# Altium integrated library Microchip PIC18.IntLib: 1897 symbols (part 45 of 110)
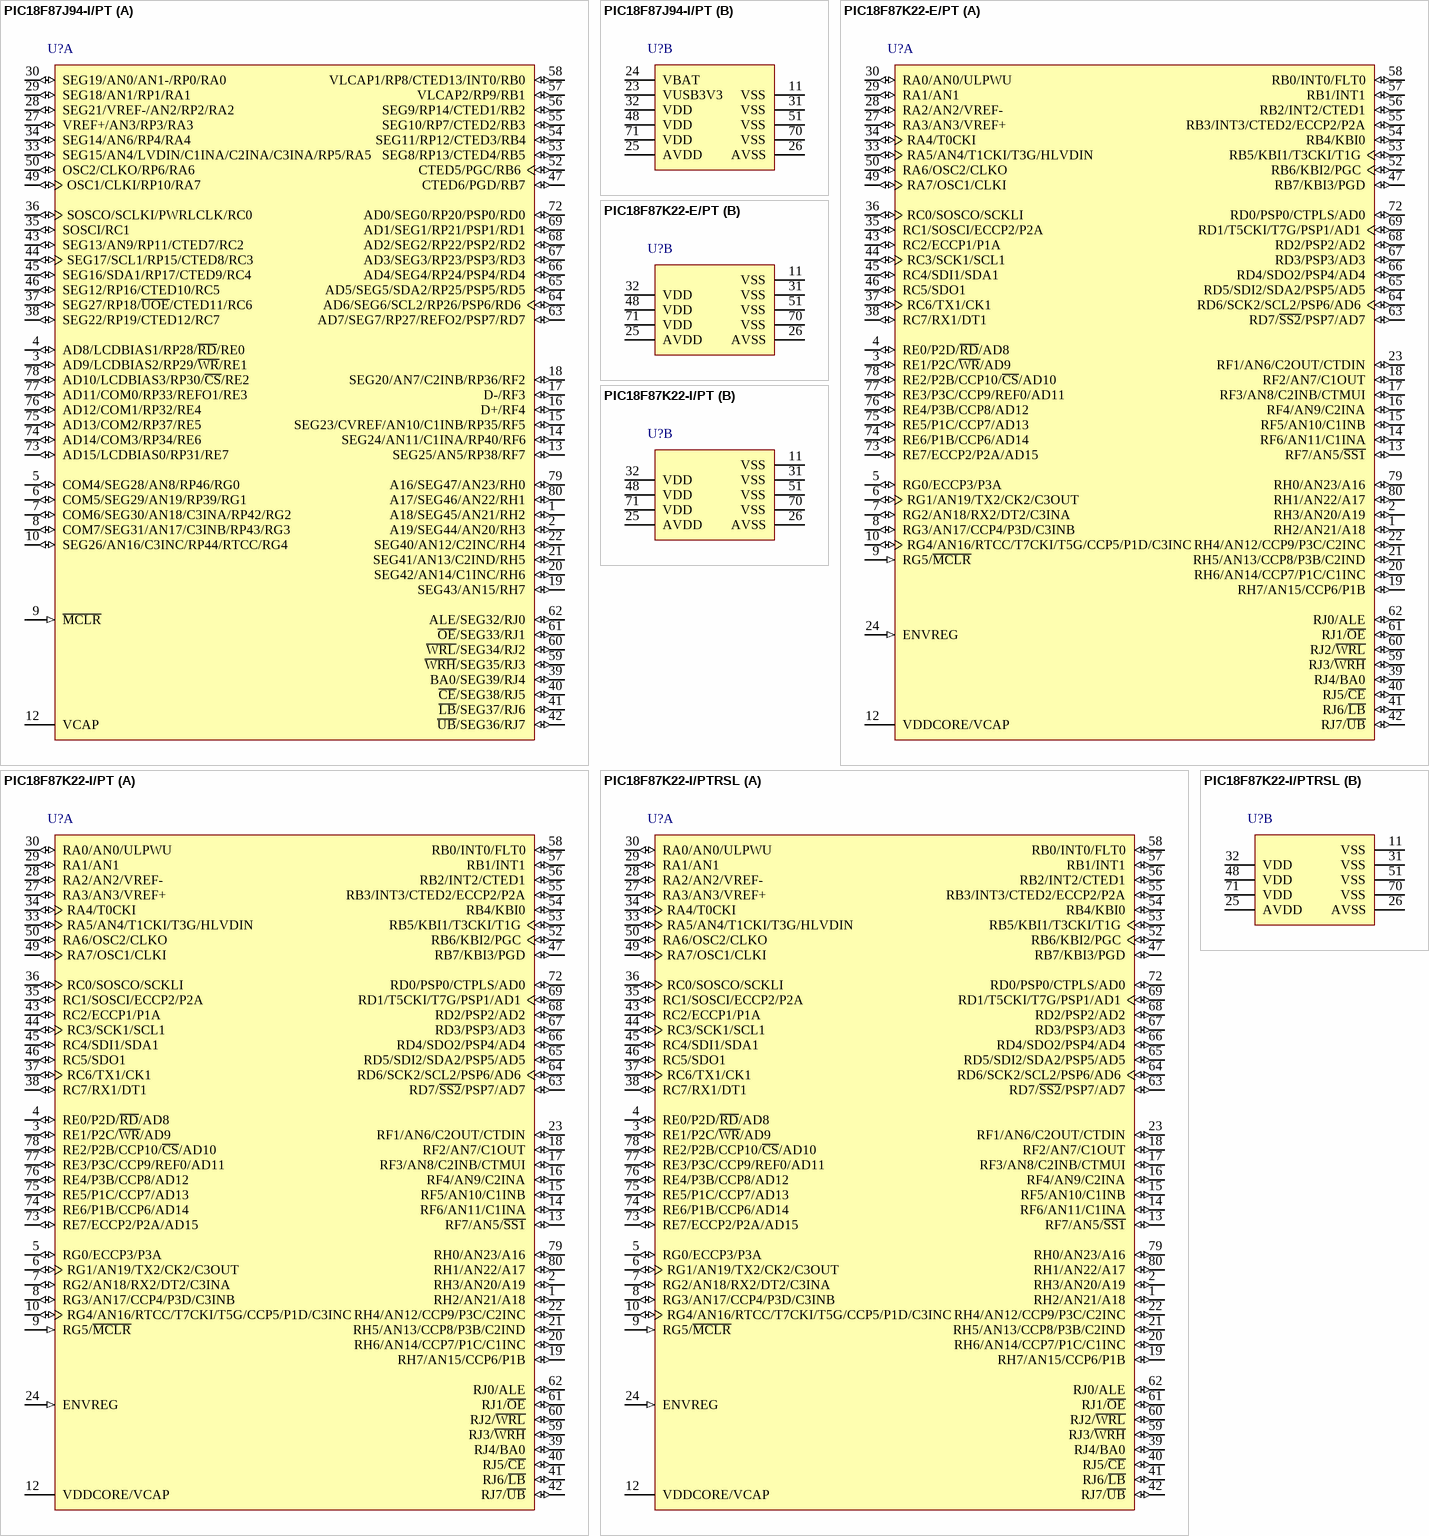
[diagram p245: symbols PIC18F87J94-I/PT to PIC18F87K22-I/PTRSL]

## PIC18F87K22-E/PT
designator U?
High-Performance, 1-Mbit Enhanced Flash MCU with 12-Bit A/D and nanoWatt XLP Technology, 64 MHz, 69 I/O, -40 to 125 degC, 80-pin TQFP (PT80), Tray; Manufacturer: Microchip; PartNumber: PIC18F87K22-E/PT; # of A/D Channels: 24; Digital Communication: 0 -UART, 2 -A/E/USART, 2 -MSSP(SPI/I2C), 0 -SSP(SPI/I2C); EEPROM Data Memory (bytes): 1024; I/O Pins: 69; Internal Oscillator: 16 MHz, 31 kHz; Max. CPU Speed MHz: 64; Operation Voltage Range: 1.8V - 5.5V; Program Memory KBytes: 128; RAM: 3862; Timers: 6 - 8-bit, 5 - 16-bit; DatasheetVersion: Rev. D; PackageVersion: C04-092B, 12/2012; PackageReference: TQFP-PT80; PackageDescription: 80-Lead Plastic Thin Quad FlatPack, 12 x 12 mm Body, 0.5 mm Pitch; Supplier 1: Digi-Key; Supplier Part Number 1: PIC18F87K22-E/PT-ND; Supplier 2: Newark; Supplier Part Number 2: 53R0286; Supplier 3: Mouser; Supplier Part Number 3: 579-PIC18F87K22-E/PT; Memory Type: Flash; Packing: TRAY; Program Memory KWords: 64; RoHS: TRUE; Mounting Technology: Surface Mount; ComponentLink1Description: Datasheet; ComponentLink1URL: http://ww1.microchip.com/downloads/en/DeviceDoc/39960d.pdf; ComponentLink2Description: Package Specification; ComponentLink2URL: http://www.microchip.com/stellent/groups/techpub_sg/documents/packagingspec/en012702.pdf; ComponentLink3Description: URL Link1; ComponentLink3URL: Product URL:http://www.microchip.com/datasheet/PIC18F87K22
footprint MCHP-TQFP-PT80_N (QFN, 80-Leads, Body 12x12mm, Pitch 0.5mm, IPC Medium Density)
footprint MCHP-TQFP-PT80_L (QFN, 80-Leads, Body 12x12mm, Pitch 0.5mm, IPC High Density)
footprint MCHP-TQFP-PT80_M (QFN, 80-Leads, Body 12x12mm, Pitch 0.5mm, IPC Low Density)
part A pins: 1 RH2/AN21/A18 (io), 2 RH3/AN20/A19 (io), 3 RE1/P2C/~{WR}/AD9 (io), 4 RE0/P2D/~{RD}/AD8 (io), 5 RG0/ECCP3/P3A (io), 6 RG1/AN19/TX2/CK2/C3OUT (io), 7 RG2/AN18/RX2/DT2/C3INA (io), 8 RG3/AN17/CCP4/P3D/C3INB (io), 9 RG5/~{MCLR} (in), 10 RG4/AN16/RTCC/T7CKI/T5G/CCP5/P1D/C3INC (io), 12 VDDCORE/VCAP (power), 13 RF7/AN5/~{SS1} (io), 14 RF6/AN11/C1INA (io), 15 RF5/AN10/C1INB (io), 16 RF4/AN9/C2INA (io), 17 RF3/AN8/C2INB/CTMUI (io), 18 RF2/AN7/C1OUT (io), 19 RH7/AN15/CCP6/P1B (io), 20 RH6/AN14/CCP7/P1C/C1INC (io), 21 RH5/AN13/CCP8/P3B/C2IND (io), 22 RH4/AN12/CCP9/P3C/C2INC (io), 23 RF1/AN6/C2OUT/CTDIN (io), 24 ENVREG (in) "Enable for on-chip voltage regulator.", 27 RA3/AN3/VREF+ (io), 28 RA2/AN2/VREF- (io), 29 RA1/AN1 (io), 30 RA0/AN0/ULPWU (io), 33 RA5/AN4/T1CKI/T3G/HLVDIN (io), 34 RA4/T0CKI (io), 35 RC1/SOSCI/ECCP2/P2A (io), 36 RC0/SOSCO/SCKLI (io), 37 RC6/TX1/CK1 (io), 38 RC7/RX1/DT1 (io), 39 RJ4/BA0 (io), 40 RJ5/~{CE} (io), 41 RJ6/~{LB} (io), 42 RJ7/~{UB} (io), 43 RC2/ECCP1/P1A (io), 44 RC3/SCK1/SCL1 (io), 45 RC4/SDI1/SDA1 (io), 46 RC5/SDO1 (io), 47 RB7/KBI3/PGD (io), 49 RA7/OSC1/CLKI (io), 50 RA6/OSC2/CLKO (io), 52 RB6/KBI2/PGC (io), 53 RB5/KBI1/T3CKI/T1G (io), 54 RB4/KBI0 (io), 55 RB3/INT3/CTED2/ECCP2/P2A (io), 56 RB2/INT2/CTED1 (io), 57 RB1/INT1 (io), 58 RB0/INT0/FLT0 (io), 59 RJ3/~{WRH} (io), 60 RJ2/~{WRL} (io), 61 RJ1/~{OE} (io), 62 RJ0/ALE (io), 63 RD7/~{SS2}/PSP7/AD7 (io), 64 RD6/SCK2/SCL2/PSP6/AD6 (io), 65 RD5/SDI2/SDA2/PSP5/AD5 (io), 66 RD4/SDO2/PSP4/AD4 (io), 67 RD3/PSP3/AD3 (io), 68 RD2/PSP2/AD2 (io), 69 RD1/T5CKI/T7G/PSP1/AD1 (io), 72 RD0/PSP0/CTPLS/AD0 (io), 73 RE7/ECCP2/P2A/AD15 (io), 74 RE6/P1B/CCP6/AD14 (io), 75 RE5/P1C/CCP7/AD13 (io), 76 RE4/P3B/CCP8/AD12 (io), 77 RE3/P3C/CCP9/REF0/AD11 (io), 78 RE2/P2B/CCP10/~{CS}/AD10 (io), 79 RH0/AN23/A16 (io), 80 RH1/AN22/A17 (io)
part B pins: 11 VSS (power) "Ground reference for logic and I/O pins.", 25 AVDD (power) "Positive supply for analog modules.", 26 AVSS (power) "Ground reference for analog modules.", 31 VSS (power) "Ground reference for logic and I/O pins.", 32 VDD (power) "Positive supply for logic and I/O pins.", 48 VDD (power) "Positive supply for logic and I/O pins.", 51 VSS (power) "Ground reference for logic and I/O pins.", 70 VSS (power) "Ground reference for logic and I/O pins.", 71 VDD (power) "Positive supply for logic and I/O pins."

## PIC18F87K22-I/PT
designator U?
High-Performance, 1-Mbit Enhanced Flash MCU with 12-Bit A/D and nanoWatt XLP Technology, 64 MHz, 69 I/O, -40 to 85 degC, 80-pin TQFP (PT80), Tray; Manufacturer: Microchip; PartNumber: PIC18F87K22-I/PT; # of A/D Channels: 24; Digital Communication: 0 -UART, 2 -A/E/USART, 2 -MSSP(SPI/I2C), 0 -SSP(SPI/I2C); EEPROM Data Memory (bytes): 1024; I/O Pins: 69; Internal Oscillator: 16 MHz, 31 kHz; Max. CPU Speed MHz: 64; Operation Voltage Range: 1.8V - 5.5V; Program Memory KBytes: 128; RAM: 3862; Timers: 6 - 8-bit, 5 - 16-bit; DatasheetVersion: Rev. D; PackageVersion: C04-092B, 12/2012; PackageReference: TQFP-PT80; PackageDescription: 80-Lead Plastic Thin Quad FlatPack, 12 x 12 mm Body, 0.5 mm Pitch; Supplier 1: Digi-Key; Supplier Part Number 1: PIC18F87K22-I/PT-ND; Supplier 2: Farnell; Supplier Part Number 2: 2103571; Supplier 3: Newark; Supplier Part Number 3: 07W6223; Supplier 4: Mouser; Supplier Part Number 4: 579-PIC18F87K22-I/PT; Memory Type: Flash; Packing: TRAY; Program Memory KWords: 64; RoHS: TRUE; Mounting Technology: Surface Mount; ComponentLink1Description: Datasheet; ComponentLink1URL: http://ww1.microchip.com/downloads/en/DeviceDoc/39960d.pdf; ComponentLink2Description: Package Specification; ComponentLink2URL: http://www.microchip.com/stellent/groups/techpub_sg/documents/packagingspec/en012702.pdf; ComponentLink3Description: URL Link1; ComponentLink3URL: Product URL:http://www.microchip.com/datasheet/PIC18F87K22
footprint MCHP-TQFP-PT80_N (QFN, 80-Leads, Body 12x12mm, Pitch 0.5mm, IPC Medium Density)
footprint MCHP-TQFP-PT80_L (QFN, 80-Leads, Body 12x12mm, Pitch 0.5mm, IPC High Density)
footprint MCHP-TQFP-PT80_M (QFN, 80-Leads, Body 12x12mm, Pitch 0.5mm, IPC Low Density)
part A pins: 1 RH2/AN21/A18 (io), 2 RH3/AN20/A19 (io), 3 RE1/P2C/~{WR}/AD9 (io), 4 RE0/P2D/~{RD}/AD8 (io), 5 RG0/ECCP3/P3A (io), 6 RG1/AN19/TX2/CK2/C3OUT (io), 7 RG2/AN18/RX2/DT2/C3INA (io), 8 RG3/AN17/CCP4/P3D/C3INB (io), 9 RG5/~{MCLR} (in), 10 RG4/AN16/RTCC/T7CKI/T5G/CCP5/P1D/C3INC (io), 12 VDDCORE/VCAP (power), 13 RF7/AN5/~{SS1} (io), 14 RF6/AN11/C1INA (io), 15 RF5/AN10/C1INB (io), 16 RF4/AN9/C2INA (io), 17 RF3/AN8/C2INB/CTMUI (io), 18 RF2/AN7/C1OUT (io), 19 RH7/AN15/CCP6/P1B (io), 20 RH6/AN14/CCP7/P1C/C1INC (io), 21 RH5/AN13/CCP8/P3B/C2IND (io), 22 RH4/AN12/CCP9/P3C/C2INC (io), 23 RF1/AN6/C2OUT/CTDIN (io), 24 ENVREG (in) "Enable for on-chip voltage regulator.", 27 RA3/AN3/VREF+ (io), 28 RA2/AN2/VREF- (io), 29 RA1/AN1 (io), 30 RA0/AN0/ULPWU (io), 33 RA5/AN4/T1CKI/T3G/HLVDIN (io), 34 RA4/T0CKI (io), 35 RC1/SOSCI/ECCP2/P2A (io), 36 RC0/SOSCO/SCKLI (io), 37 RC6/TX1/CK1 (io), 38 RC7/RX1/DT1 (io), 39 RJ4/BA0 (io), 40 RJ5/~{CE} (io), 41 RJ6/~{LB} (io), 42 RJ7/~{UB} (io), 43 RC2/ECCP1/P1A (io), 44 RC3/SCK1/SCL1 (io), 45 RC4/SDI1/SDA1 (io), 46 RC5/SDO1 (io), 47 RB7/KBI3/PGD (io), 49 RA7/OSC1/CLKI (io), 50 RA6/OSC2/CLKO (io), 52 RB6/KBI2/PGC (io), 53 RB5/KBI1/T3CKI/T1G (io), 54 RB4/KBI0 (io), 55 RB3/INT3/CTED2/ECCP2/P2A (io), 56 RB2/INT2/CTED1 (io), 57 RB1/INT1 (io), 58 RB0/INT0/FLT0 (io), 59 RJ3/~{WRH} (io), 60 RJ2/~{WRL} (io), 61 RJ1/~{OE} (io), 62 RJ0/ALE (io), 63 RD7/~{SS2}/PSP7/AD7 (io), 64 RD6/SCK2/SCL2/PSP6/AD6 (io), 65 RD5/SDI2/SDA2/PSP5/AD5 (io), 66 RD4/SDO2/PSP4/AD4 (io), 67 RD3/PSP3/AD3 (io), 68 RD2/PSP2/AD2 (io), 69 RD1/T5CKI/T7G/PSP1/AD1 (io), 72 RD0/PSP0/CTPLS/AD0 (io), 73 RE7/ECCP2/P2A/AD15 (io), 74 RE6/P1B/CCP6/AD14 (io), 75 RE5/P1C/CCP7/AD13 (io), 76 RE4/P3B/CCP8/AD12 (io), 77 RE3/P3C/CCP9/REF0/AD11 (io), 78 RE2/P2B/CCP10/~{CS}/AD10 (io), 79 RH0/AN23/A16 (io), 80 RH1/AN22/A17 (io)
part B pins: 11 VSS (power) "Ground reference for logic and I/O pins.", 25 AVDD (power) "Positive supply for analog modules.", 26 AVSS (power) "Ground reference for analog modules.", 31 VSS (power) "Ground reference for logic and I/O pins.", 32 VDD (power) "Positive supply for logic and I/O pins.", 48 VDD (power) "Positive supply for logic and I/O pins.", 51 VSS (power) "Ground reference for logic and I/O pins.", 70 VSS (power) "Ground reference for logic and I/O pins.", 71 VDD (power) "Positive supply for logic and I/O pins."

## PIC18F87K22-I/PTRSL
designator U?
High-Performance, 1-Mbit Enhanced Flash MCU with 12-Bit A/D and nanoWatt XLP Technology, 64 MHz, 69 I/O, -40 to 85 degC, 80-pin TQFP (PT80), Tray; Manufacturer: Microchip; PartNumber: PIC18F87K22-I/PTRSL; # of A/D Channels: 24; Digital Communication: 0 -UART, 2 -A/E/USART, 2 -MSSP(SPI/I2C), 0 -SSP(SPI/I2C); EEPROM Data Memory (bytes): 1024; I/O Pins: 69; Internal Oscillator: 16 MHz, 31 kHz; Max. CPU Speed MHz: 64; Operation Voltage Range: 1.8V - 5.5V; Program Memory KBytes: 128; RAM: 3862; Timers: 6 - 8-bit, 5 - 16-bit; DatasheetVersion: Rev. D; PackageVersion: C04-092B, 12/2012; PackageReference: TQFP-PT80; PackageDescription: 80-Lead Plastic Thin Quad FlatPack, 12 x 12 mm Body, 0.5 mm Pitch; Supplier 1: Digi-Key; Supplier Part Number 1: PIC18F87K22-I/PTRSL-ND; Supplier 2: Farnell; Supplier Part Number 2: 1826227; Supplier 3: Farnell; Supplier Part Number 3: 1826227MPKG; Supplier 4: Newark; Supplier Part Number 4: 25R8362; Supplier 5: Mouser; Supplier Part Number 5: 579-PIC18F87K22IPTRS; Memory Type: Flash; Packing: TRAY; Program Memory KWords: 64; RoHS: TRUE; Mounting Technology: Surface Mount; ComponentLink1Description: Datasheet; ComponentLink1URL: http://ww1.microchip.com/downloads/en/DeviceDoc/39960d.pdf; ComponentLink2Description: Package Specification; ComponentLink2URL: http://www.microchip.com/stellent/groups/techpub_sg/documents/packagingspec/en012702.pdf; ComponentLink3Description: URL Link1; ComponentLink3URL: Product URL:http://www.microchip.com/datasheet/PIC18F87K22
footprint MCHP-TQFP-PT80_N (QFN, 80-Leads, Body 12x12mm, Pitch 0.5mm, IPC Medium Density)
footprint MCHP-TQFP-PT80_L (QFN, 80-Leads, Body 12x12mm, Pitch 0.5mm, IPC High Density)
footprint MCHP-TQFP-PT80_M (QFN, 80-Leads, Body 12x12mm, Pitch 0.5mm, IPC Low Density)
part A pins: 1 RH2/AN21/A18 (io), 2 RH3/AN20/A19 (io), 3 RE1/P2C/~{WR}/AD9 (io), 4 RE0/P2D/~{RD}/AD8 (io), 5 RG0/ECCP3/P3A (io), 6 RG1/AN19/TX2/CK2/C3OUT (io), 7 RG2/AN18/RX2/DT2/C3INA (io), 8 RG3/AN17/CCP4/P3D/C3INB (io), 9 RG5/~{MCLR} (in), 10 RG4/AN16/RTCC/T7CKI/T5G/CCP5/P1D/C3INC (io), 12 VDDCORE/VCAP (power), 13 RF7/AN5/~{SS1} (io), 14 RF6/AN11/C1INA (io), 15 RF5/AN10/C1INB (io), 16 RF4/AN9/C2INA (io), 17 RF3/AN8/C2INB/CTMUI (io), 18 RF2/AN7/C1OUT (io), 19 RH7/AN15/CCP6/P1B (io), 20 RH6/AN14/CCP7/P1C/C1INC (io), 21 RH5/AN13/CCP8/P3B/C2IND (io), 22 RH4/AN12/CCP9/P3C/C2INC (io), 23 RF1/AN6/C2OUT/CTDIN (io), 24 ENVREG (in) "Enable for on-chip voltage regulator.", 27 RA3/AN3/VREF+ (io), 28 RA2/AN2/VREF- (io), 29 RA1/AN1 (io), 30 RA0/AN0/ULPWU (io), 33 RA5/AN4/T1CKI/T3G/HLVDIN (io), 34 RA4/T0CKI (io), 35 RC1/SOSCI/ECCP2/P2A (io), 36 RC0/SOSCO/SCKLI (io), 37 RC6/TX1/CK1 (io), 38 RC7/RX1/DT1 (io), 39 RJ4/BA0 (io), 40 RJ5/~{CE} (io), 41 RJ6/~{LB} (io), 42 RJ7/~{UB} (io), 43 RC2/ECCP1/P1A (io), 44 RC3/SCK1/SCL1 (io), 45 RC4/SDI1/SDA1 (io), 46 RC5/SDO1 (io), 47 RB7/KBI3/PGD (io), 49 RA7/OSC1/CLKI (io), 50 RA6/OSC2/CLKO (io), 52 RB6/KBI2/PGC (io), 53 RB5/KBI1/T3CKI/T1G (io), 54 RB4/KBI0 (io), 55 RB3/INT3/CTED2/ECCP2/P2A (io), 56 RB2/INT2/CTED1 (io), 57 RB1/INT1 (io), 58 RB0/INT0/FLT0 (io), 59 RJ3/~{WRH} (io), 60 RJ2/~{WRL} (io), 61 RJ1/~{OE} (io), 62 RJ0/ALE (io), 63 RD7/~{SS2}/PSP7/AD7 (io), 64 RD6/SCK2/SCL2/PSP6/AD6 (io), 65 RD5/SDI2/SDA2/PSP5/AD5 (io), 66 RD4/SDO2/PSP4/AD4 (io), 67 RD3/PSP3/AD3 (io), 68 RD2/PSP2/AD2 (io), 69 RD1/T5CKI/T7G/PSP1/AD1 (io), 72 RD0/PSP0/CTPLS/AD0 (io), 73 RE7/ECCP2/P2A/AD15 (io), 74 RE6/P1B/CCP6/AD14 (io), 75 RE5/P1C/CCP7/AD13 (io), 76 RE4/P3B/CCP8/AD12 (io), 77 RE3/P3C/CCP9/REF0/AD11 (io), 78 RE2/P2B/CCP10/~{CS}/AD10 (io), 79 RH0/AN23/A16 (io), 80 RH1/AN22/A17 (io)
part B pins: 11 VSS (power) "Ground reference for logic and I/O pins.", 25 AVDD (power) "Positive supply for analog modules.", 26 AVSS (power) "Ground reference for analog modules.", 31 VSS (power) "Ground reference for logic and I/O pins.", 32 VDD (power) "Positive supply for logic and I/O pins.", 48 VDD (power) "Positive supply for logic and I/O pins.", 51 VSS (power) "Ground reference for logic and I/O pins.", 70 VSS (power) "Ground reference for logic and I/O pins.", 71 VDD (power) "Positive supply for logic and I/O pins."

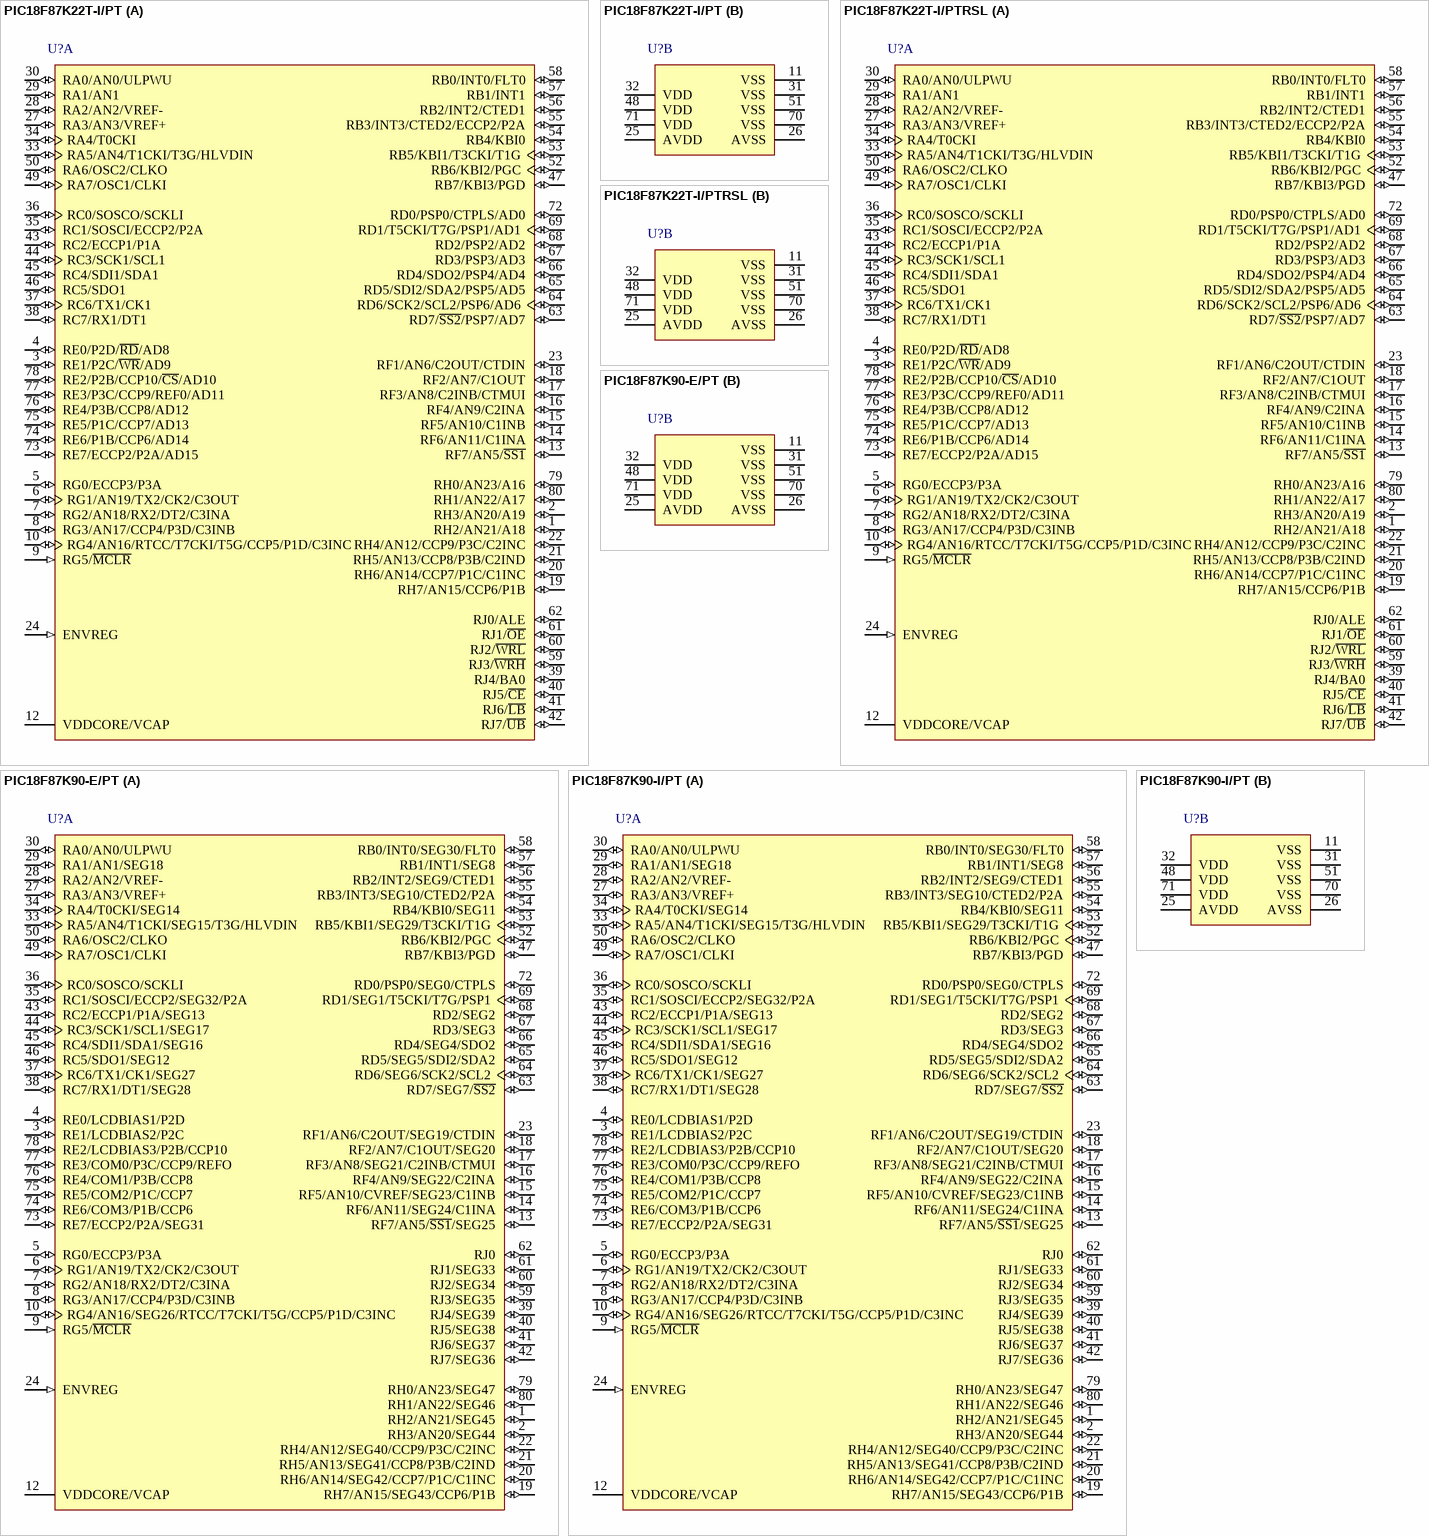
[diagram p82: symbols PIC18F87K22T-I/PT to PIC18F87K90-I/PT]

## PIC18F87K22T-I/PT
designator U?
High-Performance, 1-Mbit Enhanced Flash MCU with 12-Bit A/D and nanoWatt XLP Technology, 64 MHz, 69 I/O, -40 to 85 degC, 80-pin TQFP (PT80), Tape and Reel; Manufacturer: Microchip; PartNumber: PIC18F87K22T-I/PT; # of A/D Channels: 24; Digital Communication: 0 -UART, 2 -A/E/USART, 2 -MSSP(SPI/I2C), 0 -SSP(SPI/I2C); EEPROM Data Memory (bytes): 1024; I/O Pins: 69; Internal Oscillator: 16 MHz, 31 kHz; Max. CPU Speed MHz: 64; Operation Voltage Range: 1.8V - 5.5V; Packing: T/R; Program Memory KBytes: 128; RAM: 3862; Timers: 6 - 8-bit, 5 - 16-bit; DatasheetVersion: Rev. D; PackageVersion: C04-092B, 12/2012; PackageReference: TQFP-PT80; PackageDescription: 80-Lead Plastic Thin Quad FlatPack, 12 x 12 mm Body, 0.5 mm Pitch; Supplier 1: Digi-Key; Supplier Part Number 1: PIC18F87K22T-I/PT-ND; Supplier 2: Newark; Supplier Part Number 2: 25R8363; Supplier 3: Mouser; Supplier Part Number 3: 579-PIC18F87K22TI/PT; Memory Type: Flash; Program Memory KWords: 64; RoHS: TRUE; Mounting Technology: Surface Mount; ComponentLink1Description: Datasheet; ComponentLink1URL: http://ww1.microchip.com/downloads/en/DeviceDoc/39960d.pdf; ComponentLink2Description: Package Specification; ComponentLink2URL: http://www.microchip.com/stellent/groups/techpub_sg/documents/packagingspec/en012702.pdf; ComponentLink3Description: URL Link1; ComponentLink3URL: Product URL:http://www.microchip.com/datasheet/PIC18F87K22
footprint MCHP-TQFP-PT80_N (QFN, 80-Leads, Body 12x12mm, Pitch 0.5mm, IPC Medium Density)
footprint MCHP-TQFP-PT80_L (QFN, 80-Leads, Body 12x12mm, Pitch 0.5mm, IPC High Density)
footprint MCHP-TQFP-PT80_M (QFN, 80-Leads, Body 12x12mm, Pitch 0.5mm, IPC Low Density)
part A pins: 1 RH2/AN21/A18 (io), 2 RH3/AN20/A19 (io), 3 RE1/P2C/~{WR}/AD9 (io), 4 RE0/P2D/~{RD}/AD8 (io), 5 RG0/ECCP3/P3A (io), 6 RG1/AN19/TX2/CK2/C3OUT (io), 7 RG2/AN18/RX2/DT2/C3INA (io), 8 RG3/AN17/CCP4/P3D/C3INB (io), 9 RG5/~{MCLR} (in), 10 RG4/AN16/RTCC/T7CKI/T5G/CCP5/P1D/C3INC (io), 12 VDDCORE/VCAP (power), 13 RF7/AN5/~{SS1} (io), 14 RF6/AN11/C1INA (io), 15 RF5/AN10/C1INB (io), 16 RF4/AN9/C2INA (io), 17 RF3/AN8/C2INB/CTMUI (io), 18 RF2/AN7/C1OUT (io), 19 RH7/AN15/CCP6/P1B (io), 20 RH6/AN14/CCP7/P1C/C1INC (io), 21 RH5/AN13/CCP8/P3B/C2IND (io), 22 RH4/AN12/CCP9/P3C/C2INC (io), 23 RF1/AN6/C2OUT/CTDIN (io), 24 ENVREG (in) "Enable for on-chip voltage regulator.", 27 RA3/AN3/VREF+ (io), 28 RA2/AN2/VREF- (io), 29 RA1/AN1 (io), 30 RA0/AN0/ULPWU (io), 33 RA5/AN4/T1CKI/T3G/HLVDIN (io), 34 RA4/T0CKI (io), 35 RC1/SOSCI/ECCP2/P2A (io), 36 RC0/SOSCO/SCKLI (io), 37 RC6/TX1/CK1 (io), 38 RC7/RX1/DT1 (io), 39 RJ4/BA0 (io), 40 RJ5/~{CE} (io), 41 RJ6/~{LB} (io), 42 RJ7/~{UB} (io), 43 RC2/ECCP1/P1A (io), 44 RC3/SCK1/SCL1 (io), 45 RC4/SDI1/SDA1 (io), 46 RC5/SDO1 (io), 47 RB7/KBI3/PGD (io), 49 RA7/OSC1/CLKI (io), 50 RA6/OSC2/CLKO (io), 52 RB6/KBI2/PGC (io), 53 RB5/KBI1/T3CKI/T1G (io), 54 RB4/KBI0 (io), 55 RB3/INT3/CTED2/ECCP2/P2A (io), 56 RB2/INT2/CTED1 (io), 57 RB1/INT1 (io), 58 RB0/INT0/FLT0 (io), 59 RJ3/~{WRH} (io), 60 RJ2/~{WRL} (io), 61 RJ1/~{OE} (io), 62 RJ0/ALE (io), 63 RD7/~{SS2}/PSP7/AD7 (io), 64 RD6/SCK2/SCL2/PSP6/AD6 (io), 65 RD5/SDI2/SDA2/PSP5/AD5 (io), 66 RD4/SDO2/PSP4/AD4 (io), 67 RD3/PSP3/AD3 (io), 68 RD2/PSP2/AD2 (io), 69 RD1/T5CKI/T7G/PSP1/AD1 (io), 72 RD0/PSP0/CTPLS/AD0 (io), 73 RE7/ECCP2/P2A/AD15 (io), 74 RE6/P1B/CCP6/AD14 (io), 75 RE5/P1C/CCP7/AD13 (io), 76 RE4/P3B/CCP8/AD12 (io), 77 RE3/P3C/CCP9/REF0/AD11 (io), 78 RE2/P2B/CCP10/~{CS}/AD10 (io), 79 RH0/AN23/A16 (io), 80 RH1/AN22/A17 (io)
part B pins: 11 VSS (power) "Ground reference for logic and I/O pins.", 25 AVDD (power) "Positive supply for analog modules.", 26 AVSS (power) "Ground reference for analog modules.", 31 VSS (power) "Ground reference for logic and I/O pins.", 32 VDD (power) "Positive supply for logic and I/O pins.", 48 VDD (power) "Positive supply for logic and I/O pins.", 51 VSS (power) "Ground reference for logic and I/O pins.", 70 VSS (power) "Ground reference for logic and I/O pins.", 71 VDD (power) "Positive supply for logic and I/O pins."

## PIC18F87K22T-I/PTRSL
designator U?
High-Performance, 1-Mbit Enhanced Flash MCU with 12-Bit A/D and nanoWatt XLP Technology, 64 MHz, 69 I/O, -40 to 85 degC, 80-pin TQFP (PT80), Tape and Reel; Manufacturer: Microchip; PartNumber: PIC18F87K22T-I/PTRSL; # of A/D Channels: 24; Digital Communication: 0 -UART, 2 -A/E/USART, 2 -MSSP(SPI/I2C), 0 -SSP(SPI/I2C); EEPROM Data Memory (bytes): 1024; I/O Pins: 69; Internal Oscillator: 16 MHz, 31 kHz; Max. CPU Speed MHz: 64; Operation Voltage Range: 1.8V - 5.5V; Packing: T/R; Program Memory KBytes: 128; RAM: 3862; Timers: 6 - 8-bit, 5 - 16-bit; DatasheetVersion: Rev. D; PackageVersion: C04-092B, 12/2012; PackageReference: TQFP-PT80; PackageDescription: 80-Lead Plastic Thin Quad FlatPack, 12 x 12 mm Body, 0.5 mm Pitch; Supplier 1: Digi-Key; Supplier Part Number 1: PIC18F87K22T-I/PTRSL-ND; Supplier 2: Mouser; Supplier Part Number 2: 579-PIC18F87K22TIPTR; Memory Type: Flash; Program Memory KWords: 64; RoHS: TRUE; Mounting Technology: Surface Mount; ComponentLink1Description: Datasheet; ComponentLink1URL: http://ww1.microchip.com/downloads/en/DeviceDoc/39960d.pdf; ComponentLink2Description: Package Specification; ComponentLink2URL: http://www.microchip.com/stellent/groups/techpub_sg/documents/packagingspec/en012702.pdf; ComponentLink3Description: URL Link1; ComponentLink3URL: Product URL:http://www.microchip.com/datasheet/PIC18F87K22
footprint MCHP-TQFP-PT80_N (QFN, 80-Leads, Body 12x12mm, Pitch 0.5mm, IPC Medium Density)
footprint MCHP-TQFP-PT80_L (QFN, 80-Leads, Body 12x12mm, Pitch 0.5mm, IPC High Density)
footprint MCHP-TQFP-PT80_M (QFN, 80-Leads, Body 12x12mm, Pitch 0.5mm, IPC Low Density)
part A pins: 1 RH2/AN21/A18 (io), 2 RH3/AN20/A19 (io), 3 RE1/P2C/~{WR}/AD9 (io), 4 RE0/P2D/~{RD}/AD8 (io), 5 RG0/ECCP3/P3A (io), 6 RG1/AN19/TX2/CK2/C3OUT (io), 7 RG2/AN18/RX2/DT2/C3INA (io), 8 RG3/AN17/CCP4/P3D/C3INB (io), 9 RG5/~{MCLR} (in), 10 RG4/AN16/RTCC/T7CKI/T5G/CCP5/P1D/C3INC (io), 12 VDDCORE/VCAP (power), 13 RF7/AN5/~{SS1} (io), 14 RF6/AN11/C1INA (io), 15 RF5/AN10/C1INB (io), 16 RF4/AN9/C2INA (io), 17 RF3/AN8/C2INB/CTMUI (io), 18 RF2/AN7/C1OUT (io), 19 RH7/AN15/CCP6/P1B (io), 20 RH6/AN14/CCP7/P1C/C1INC (io), 21 RH5/AN13/CCP8/P3B/C2IND (io), 22 RH4/AN12/CCP9/P3C/C2INC (io), 23 RF1/AN6/C2OUT/CTDIN (io), 24 ENVREG (in) "Enable for on-chip voltage regulator.", 27 RA3/AN3/VREF+ (io), 28 RA2/AN2/VREF- (io), 29 RA1/AN1 (io), 30 RA0/AN0/ULPWU (io), 33 RA5/AN4/T1CKI/T3G/HLVDIN (io), 34 RA4/T0CKI (io), 35 RC1/SOSCI/ECCP2/P2A (io), 36 RC0/SOSCO/SCKLI (io), 37 RC6/TX1/CK1 (io), 38 RC7/RX1/DT1 (io), 39 RJ4/BA0 (io), 40 RJ5/~{CE} (io), 41 RJ6/~{LB} (io), 42 RJ7/~{UB} (io), 43 RC2/ECCP1/P1A (io), 44 RC3/SCK1/SCL1 (io), 45 RC4/SDI1/SDA1 (io), 46 RC5/SDO1 (io), 47 RB7/KBI3/PGD (io), 49 RA7/OSC1/CLKI (io), 50 RA6/OSC2/CLKO (io), 52 RB6/KBI2/PGC (io), 53 RB5/KBI1/T3CKI/T1G (io), 54 RB4/KBI0 (io), 55 RB3/INT3/CTED2/ECCP2/P2A (io), 56 RB2/INT2/CTED1 (io), 57 RB1/INT1 (io), 58 RB0/INT0/FLT0 (io), 59 RJ3/~{WRH} (io), 60 RJ2/~{WRL} (io), 61 RJ1/~{OE} (io), 62 RJ0/ALE (io), 63 RD7/~{SS2}/PSP7/AD7 (io), 64 RD6/SCK2/SCL2/PSP6/AD6 (io), 65 RD5/SDI2/SDA2/PSP5/AD5 (io), 66 RD4/SDO2/PSP4/AD4 (io), 67 RD3/PSP3/AD3 (io), 68 RD2/PSP2/AD2 (io), 69 RD1/T5CKI/T7G/PSP1/AD1 (io), 72 RD0/PSP0/CTPLS/AD0 (io), 73 RE7/ECCP2/P2A/AD15 (io), 74 RE6/P1B/CCP6/AD14 (io), 75 RE5/P1C/CCP7/AD13 (io), 76 RE4/P3B/CCP8/AD12 (io), 77 RE3/P3C/CCP9/REF0/AD11 (io), 78 RE2/P2B/CCP10/~{CS}/AD10 (io), 79 RH0/AN23/A16 (io), 80 RH1/AN22/A17 (io)
part B pins: 11 VSS (power) "Ground reference for logic and I/O pins.", 25 AVDD (power) "Positive supply for analog modules.", 26 AVSS (power) "Ground reference for analog modules.", 31 VSS (power) "Ground reference for logic and I/O pins.", 32 VDD (power) "Positive supply for logic and I/O pins.", 48 VDD (power) "Positive supply for logic and I/O pins.", 51 VSS (power) "Ground reference for logic and I/O pins.", 70 VSS (power) "Ground reference for logic and I/O pins.", 71 VDD (power) "Positive supply for logic and I/O pins."

## PIC18F87K90-E/PT
designator U?
High-Performance Microcontroller with LCD Driver and nanoWatt XLP Technology, 64 MHz, 69 I/O, -40 to 125 degC, 80-pin TQFP (PT80), Tray; Manufacturer: Microchip; PartNumber: PIC18F87K90-E/PT; # of A/D Channels: 24; Digital Communication: 2 -A/E/USART, 2 -MSSP(SPI/I2C); EEPROM Data Memory (bytes): 1024; I/O Pins: 69; Internal Oscillator: 16 MHz, 31 kHz; Max. CPU Speed MHz: 64; Memory Type: Flash; Operation Voltage Range: 1.8V - 5.5V; Program Memory KBytes: 128; RAM: 4096; Timers: 6 - 8-bit, 5 - 16-bit; DatasheetVersion: Rev. D; PackageVersion: C04-092B, 12/2012; PackageReference: TQFP-PT80; PackageDescription: 80-Lead Plastic Thin Quad FlatPack, 12 x 12 mm Body, 0.5 mm Pitch; Supplier 1: Digi-Key; Supplier Part Number 1: PIC18F87K90-E/PT-ND; Supplier 2: Mouser; Supplier Part Number 2: 579-PIC18F87K90-E/PT; Packing: TRAY; Program Memory KWords: 64; RoHS: TRUE; Mounting Technology: Surface Mount; ComponentLink1Description: Datasheet; ComponentLink1URL: http://ww1.microchip.com/downloads/en/DeviceDoc/39957d.pdf; ComponentLink2Description: Package Specification; ComponentLink2URL: http://www.microchip.com/stellent/groups/techpub_sg/documents/packagingspec/en012702.pdf; ComponentLink3Description: URL Link1; ComponentLink3URL: Product URL:http://www.microchip.com/datasheet/PIC18F87K90
footprint MCHP-TQFP-PT80_N (QFN, 80-Leads, Body 12x12mm, Pitch 0.5mm, IPC Medium Density)
footprint MCHP-TQFP-PT80_L (QFN, 80-Leads, Body 12x12mm, Pitch 0.5mm, IPC High Density)
footprint MCHP-TQFP-PT80_M (QFN, 80-Leads, Body 12x12mm, Pitch 0.5mm, IPC Low Density)
part A pins: 1 RH2/AN21/SEG45 (io), 2 RH3/AN20/SEG44 (io), 3 RE1/LCDBIAS2/P2C (io), 4 RE0/LCDBIAS1/P2D (io), 5 RG0/ECCP3/P3A (io), 6 RG1/AN19/TX2/CK2/C3OUT (io), 7 RG2/AN18/RX2/DT2/C3INA (io), 8 RG3/AN17/CCP4/P3D/C3INB (io), 9 RG5/~{MCLR} (in), 10 RG4/AN16/SEG26/RTCC/T7CKI/T5G/CCP5/P1D/C3INC (io), 12 VDDCORE/VCAP (power), 13 RF7/AN5/~{SS1}/SEG25 (io), 14 RF6/AN11/SEG24/C1INA (io), 15 RF5/AN10/CVREF/SEG23/C1INB (io), 16 RF4/AN9/SEG22/C2INA (io), 17 RF3/AN8/SEG21/C2INB/CTMUI (io), 18 RF2/AN7/C1OUT/SEG20 (io), 19 RH7/AN15/SEG43/CCP6/P1B (io), 20 RH6/AN14/SEG42/CCP7/P1C/C1INC (io), 21 RH5/AN13/SEG41/CCP8/P3B/C2IND (io), 22 RH4/AN12/SEG40/CCP9/P3C/C2INC (io), 23 RF1/AN6/C2OUT/SEG19/CTDIN (io), 24 ENVREG (in) "Enable for on-chip voltage regulator.", 27 RA3/AN3/VREF+ (io), 28 RA2/AN2/VREF- (io), 29 RA1/AN1/SEG18 (io), 30 RA0/AN0/ULPWU (io), 33 RA5/AN4/T1CKI/SEG15/T3G/HLVDIN (io), 34 RA4/T0CKI/SEG14 (io), 35 RC1/SOSCI/ECCP2/SEG32/P2A (io), 36 RC0/SOSCO/SCKLI (io), 37 RC6/TX1/CK1/SEG27 (io), 38 RC7/RX1/DT1/SEG28 (io), 39 RJ4/SEG39 (io), 40 RJ5/SEG38 (io), 41 RJ6/SEG37 (io), 42 RJ7/SEG36 (io), 43 RC2/ECCP1/P1A/SEG13 (io), 44 RC3/SCK1/SCL1/SEG17 (io), 45 RC4/SDI1/SDA1/SEG16 (io), 46 RC5/SDO1/SEG12 (io), 47 RB7/KBI3/PGD (io), 49 RA7/OSC1/CLKI (io), 50 RA6/OSC2/CLKO (io), 52 RB6/KBI2/PGC (io), 53 RB5/KBI1/SEG29/T3CKI/T1G (io), 54 RB4/KBI0/SEG11 (io), 55 RB3/INT3/SEG10/CTED2/P2A (io), 56 RB2/INT2/SEG9/CTED1 (io), 57 RB1/INT1/SEG8 (io), 58 RB0/INT0/SEG30/FLT0 (io), 59 RJ3/SEG35 (io), 60 RJ2/SEG34 (io), 61 RJ1/SEG33 (io), 62 RJ0 (io) "PORTJ is a bidirectional I/O port.Digital I/O.", 63 RD7/SEG7/~{SS2} (io), 64 RD6/SEG6/SCK2/SCL2 (io), 65 RD5/SEG5/SDI2/SDA2 (io), 66 RD4/SEG4/SDO2 (io), 67 RD3/SEG3 (io), 68 RD2/SEG2 (io), 69 RD1/SEG1/T5CKI/T7G/PSP1 (io), 72 RD0/PSP0/SEG0/CTPLS (io), 73 RE7/ECCP2/P2A/SEG31 (io), 74 RE6/COM3/P1B/CCP6 (io), 75 RE5/COM2/P1C/CCP7 (io), 76 RE4/COM1/P3B/CCP8 (io), 77 RE3/COM0/P3C/CCP9/REFO (io), 78 RE2/LCDBIAS3/P2B/CCP10 (io), 79 RH0/AN23/SEG47 (io), 80 RH1/AN22/SEG46 (io)
part B pins: 11 VSS (power) "Ground reference for logic and I/O pins.", 25 AVDD (power) "Positive supply for analog modules.", 26 AVSS (power) "Ground reference for analog modules.", 31 VSS (power) "Ground reference for logic and I/O pins.", 32 VDD (power) "Positive supply for logic and I/O pins.", 48 VDD (power) "Positive supply for logic and I/O pins.", 51 VSS (power) "Ground reference for logic and I/O pins.", 70 VSS (power) "Ground reference for logic and I/O pins.", 71 VDD (power) "Positive supply for logic and I/O pins."

## PIC18F87K90-I/PT
designator U?
High-Performance Microcontroller with LCD Driver and nanoWatt XLP Technology, 64 MHz, 69 I/O, -40 to 85 degC, 80-pin TQFP (PT80), Tray; Manufacturer: Microchip; PartNumber: PIC18F87K90-I/PT; # of A/D Channels: 24; Digital Communication: 2 -A/E/USART, 2 -MSSP(SPI/I2C); EEPROM Data Memory (bytes): 1024; I/O Pins: 69; Internal Oscillator: 16 MHz, 31 kHz; Max. CPU Speed MHz: 64; Memory Type: Flash; Operation Voltage Range: 1.8V - 5.5V; Program Memory KBytes: 128; RAM: 4096; Timers: 6 - 8-bit, 5 - 16-bit; DatasheetVersion: Rev. D; PackageVersion: C04-092B, 12/2012; PackageReference: TQFP-PT80; PackageDescription: 80-Lead Plastic Thin Quad FlatPack, 12 x 12 mm Body, 0.5 mm Pitch; Supplier 1: Digi-Key; Supplier Part Number 1: PIC18F87K90-I/PT-ND; Supplier 2: Farnell; Supplier Part Number 2: 1770695; Supplier 3: Newark; Supplier Part Number 3: 41T4378; Supplier 4: Newark; Supplier Part Number 4: 52R2266; Supplier 5: Mouser; Supplier Part Number 5: 579-PIC18F87K90-I/PT; Packing: TRAY; Program Memory KWords: 64; RoHS: TRUE; Mounting Technology: Surface Mount; ComponentLink1Description: Datasheet; ComponentLink1URL: http://ww1.microchip.com/downloads/en/DeviceDoc/39957d.pdf; ComponentLink2Description: Package Specification; ComponentLink2URL: http://www.microchip.com/stellent/groups/techpub_sg/documents/packagingspec/en012702.pdf; ComponentLink3Description: URL Link1; ComponentLink3URL: Product URL:http://www.microchip.com/datasheet/PIC18F87K90
footprint MCHP-TQFP-PT80_N (QFN, 80-Leads, Body 12x12mm, Pitch 0.5mm, IPC Medium Density)
footprint MCHP-TQFP-PT80_L (QFN, 80-Leads, Body 12x12mm, Pitch 0.5mm, IPC High Density)
footprint MCHP-TQFP-PT80_M (QFN, 80-Leads, Body 12x12mm, Pitch 0.5mm, IPC Low Density)
part A pins: 1 RH2/AN21/SEG45 (io), 2 RH3/AN20/SEG44 (io), 3 RE1/LCDBIAS2/P2C (io), 4 RE0/LCDBIAS1/P2D (io), 5 RG0/ECCP3/P3A (io), 6 RG1/AN19/TX2/CK2/C3OUT (io), 7 RG2/AN18/RX2/DT2/C3INA (io), 8 RG3/AN17/CCP4/P3D/C3INB (io), 9 RG5/~{MCLR} (in), 10 RG4/AN16/SEG26/RTCC/T7CKI/T5G/CCP5/P1D/C3INC (io), 12 VDDCORE/VCAP (power), 13 RF7/AN5/~{SS1}/SEG25 (io), 14 RF6/AN11/SEG24/C1INA (io), 15 RF5/AN10/CVREF/SEG23/C1INB (io), 16 RF4/AN9/SEG22/C2INA (io), 17 RF3/AN8/SEG21/C2INB/CTMUI (io), 18 RF2/AN7/C1OUT/SEG20 (io), 19 RH7/AN15/SEG43/CCP6/P1B (io), 20 RH6/AN14/SEG42/CCP7/P1C/C1INC (io), 21 RH5/AN13/SEG41/CCP8/P3B/C2IND (io), 22 RH4/AN12/SEG40/CCP9/P3C/C2INC (io), 23 RF1/AN6/C2OUT/SEG19/CTDIN (io), 24 ENVREG (in) "Enable for on-chip voltage regulator.", 27 RA3/AN3/VREF+ (io), 28 RA2/AN2/VREF- (io), 29 RA1/AN1/SEG18 (io), 30 RA0/AN0/ULPWU (io), 33 RA5/AN4/T1CKI/SEG15/T3G/HLVDIN (io), 34 RA4/T0CKI/SEG14 (io), 35 RC1/SOSCI/ECCP2/SEG32/P2A (io), 36 RC0/SOSCO/SCKLI (io), 37 RC6/TX1/CK1/SEG27 (io), 38 RC7/RX1/DT1/SEG28 (io), 39 RJ4/SEG39 (io), 40 RJ5/SEG38 (io), 41 RJ6/SEG37 (io), 42 RJ7/SEG36 (io), 43 RC2/ECCP1/P1A/SEG13 (io), 44 RC3/SCK1/SCL1/SEG17 (io), 45 RC4/SDI1/SDA1/SEG16 (io), 46 RC5/SDO1/SEG12 (io), 47 RB7/KBI3/PGD (io), 49 RA7/OSC1/CLKI (io), 50 RA6/OSC2/CLKO (io), 52 RB6/KBI2/PGC (io), 53 RB5/KBI1/SEG29/T3CKI/T1G (io), 54 RB4/KBI0/SEG11 (io), 55 RB3/INT3/SEG10/CTED2/P2A (io), 56 RB2/INT2/SEG9/CTED1 (io), 57 RB1/INT1/SEG8 (io), 58 RB0/INT0/SEG30/FLT0 (io), 59 RJ3/SEG35 (io), 60 RJ2/SEG34 (io), 61 RJ1/SEG33 (io), 62 RJ0 (io) "PORTJ is a bidirectional I/O port.Digital I/O.", 63 RD7/SEG7/~{SS2} (io), 64 RD6/SEG6/SCK2/SCL2 (io), 65 RD5/SEG5/SDI2/SDA2 (io), 66 RD4/SEG4/SDO2 (io), 67 RD3/SEG3 (io), 68 RD2/SEG2 (io), 69 RD1/SEG1/T5CKI/T7G/PSP1 (io), 72 RD0/PSP0/SEG0/CTPLS (io), 73 RE7/ECCP2/P2A/SEG31 (io), 74 RE6/COM3/P1B/CCP6 (io), 75 RE5/COM2/P1C/CCP7 (io), 76 RE4/COM1/P3B/CCP8 (io), 77 RE3/COM0/P3C/CCP9/REFO (io), 78 RE2/LCDBIAS3/P2B/CCP10 (io), 79 RH0/AN23/SEG47 (io), 80 RH1/AN22/SEG46 (io)
part B pins: 11 VSS (power) "Ground reference for logic and I/O pins.", 25 AVDD (power) "Positive supply for analog modules.", 26 AVSS (power) "Ground reference for analog modules.", 31 VSS (power) "Ground reference for logic and I/O pins.", 32 VDD (power) "Positive supply for logic and I/O pins.", 48 VDD (power) "Positive supply for logic and I/O pins.", 51 VSS (power) "Ground reference for logic and I/O pins.", 70 VSS (power) "Ground reference for logic and I/O pins.", 71 VDD (power) "Positive supply for logic and I/O pins."

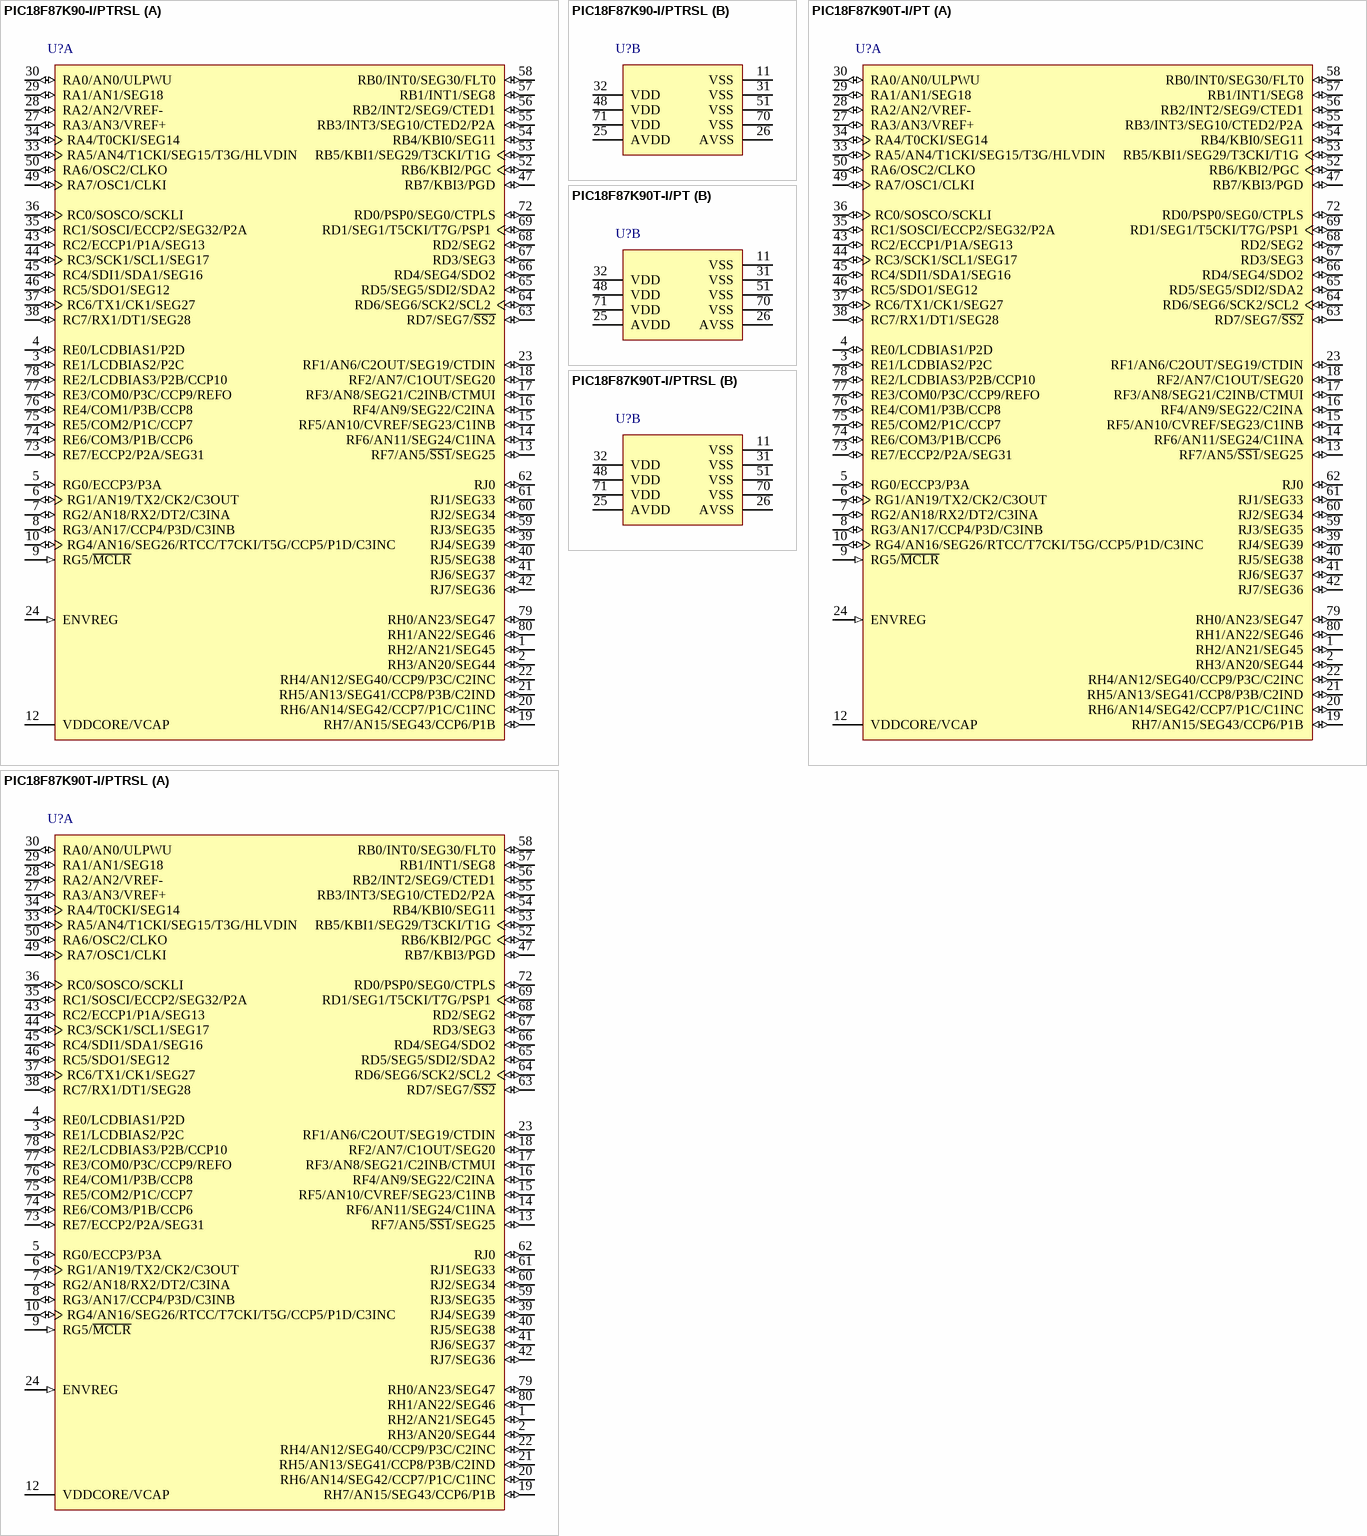
[diagram p83: symbols PIC18F87K90-I/PTRSL to PIC18F87K90T-I/PTRSL]

## PIC18F87K90-I/PTRSL
designator U?
High-Performance Microcontroller with LCD Driver and nanoWatt XLP Technology, 64 MHz, 69 I/O, -40 to 85 degC, 80-pin TQFP (PT80), Tray; Manufacturer: Microchip; PartNumber: PIC18F87K90-I/PTRSL; # of A/D Channels: 24; Digital Communication: 2 -A/E/USART, 2 -MSSP(SPI/I2C); EEPROM Data Memory (bytes): 1024; I/O Pins: 69; Internal Oscillator: 16 MHz, 31 kHz; Max. CPU Speed MHz: 64; Memory Type: Flash; Operation Voltage Range: 1.8V - 5.5V; Program Memory KBytes: 128; RAM: 4096; Timers: 6 - 8-bit, 5 - 16-bit; DatasheetVersion: Rev. D; PackageVersion: C04-092B, 12/2012; PackageReference: TQFP-PT80; PackageDescription: 80-Lead Plastic Thin Quad FlatPack, 12 x 12 mm Body, 0.5 mm Pitch; Supplier 1: Digi-Key; Supplier Part Number 1: PIC18F87K90-I/PTRSL-ND; Supplier 2: Farnell; Supplier Part Number 2: 1826230; Supplier 3: Farnell; Supplier Part Number 3: 1826230MPKG; Supplier 4: Newark; Supplier Part Number 4: 28T0065; Supplier 5: Newark; Supplier Part Number 5: 25R8364; Supplier 6: Mouser; Supplier Part Number 6: 579-PIC18F87K90IPTRS; Packing: TRAY; Program Memory KWords: 64; RoHS: TRUE; Mounting Technology: Surface Mount; ComponentLink1Description: Datasheet; ComponentLink1URL: http://ww1.microchip.com/downloads/en/DeviceDoc/39957d.pdf; ComponentLink2Description: Package Specification; ComponentLink2URL: http://www.microchip.com/stellent/groups/techpub_sg/documents/packagingspec/en012702.pdf; ComponentLink3Description: URL Link1; ComponentLink3URL: Product URL:http://www.microchip.com/datasheet/PIC18F87K90
footprint MCHP-TQFP-PT80_N (QFN, 80-Leads, Body 12x12mm, Pitch 0.5mm, IPC Medium Density)
footprint MCHP-TQFP-PT80_L (QFN, 80-Leads, Body 12x12mm, Pitch 0.5mm, IPC High Density)
footprint MCHP-TQFP-PT80_M (QFN, 80-Leads, Body 12x12mm, Pitch 0.5mm, IPC Low Density)
part A pins: 1 RH2/AN21/SEG45 (io), 2 RH3/AN20/SEG44 (io), 3 RE1/LCDBIAS2/P2C (io), 4 RE0/LCDBIAS1/P2D (io), 5 RG0/ECCP3/P3A (io), 6 RG1/AN19/TX2/CK2/C3OUT (io), 7 RG2/AN18/RX2/DT2/C3INA (io), 8 RG3/AN17/CCP4/P3D/C3INB (io), 9 RG5/~{MCLR} (in), 10 RG4/AN16/SEG26/RTCC/T7CKI/T5G/CCP5/P1D/C3INC (io), 12 VDDCORE/VCAP (power), 13 RF7/AN5/~{SS1}/SEG25 (io), 14 RF6/AN11/SEG24/C1INA (io), 15 RF5/AN10/CVREF/SEG23/C1INB (io), 16 RF4/AN9/SEG22/C2INA (io), 17 RF3/AN8/SEG21/C2INB/CTMUI (io), 18 RF2/AN7/C1OUT/SEG20 (io), 19 RH7/AN15/SEG43/CCP6/P1B (io), 20 RH6/AN14/SEG42/CCP7/P1C/C1INC (io), 21 RH5/AN13/SEG41/CCP8/P3B/C2IND (io), 22 RH4/AN12/SEG40/CCP9/P3C/C2INC (io), 23 RF1/AN6/C2OUT/SEG19/CTDIN (io), 24 ENVREG (in) "Enable for on-chip voltage regulator.", 27 RA3/AN3/VREF+ (io), 28 RA2/AN2/VREF- (io), 29 RA1/AN1/SEG18 (io), 30 RA0/AN0/ULPWU (io), 33 RA5/AN4/T1CKI/SEG15/T3G/HLVDIN (io), 34 RA4/T0CKI/SEG14 (io), 35 RC1/SOSCI/ECCP2/SEG32/P2A (io), 36 RC0/SOSCO/SCKLI (io), 37 RC6/TX1/CK1/SEG27 (io), 38 RC7/RX1/DT1/SEG28 (io), 39 RJ4/SEG39 (io), 40 RJ5/SEG38 (io), 41 RJ6/SEG37 (io), 42 RJ7/SEG36 (io), 43 RC2/ECCP1/P1A/SEG13 (io), 44 RC3/SCK1/SCL1/SEG17 (io), 45 RC4/SDI1/SDA1/SEG16 (io), 46 RC5/SDO1/SEG12 (io), 47 RB7/KBI3/PGD (io), 49 RA7/OSC1/CLKI (io), 50 RA6/OSC2/CLKO (io), 52 RB6/KBI2/PGC (io), 53 RB5/KBI1/SEG29/T3CKI/T1G (io), 54 RB4/KBI0/SEG11 (io), 55 RB3/INT3/SEG10/CTED2/P2A (io), 56 RB2/INT2/SEG9/CTED1 (io), 57 RB1/INT1/SEG8 (io), 58 RB0/INT0/SEG30/FLT0 (io), 59 RJ3/SEG35 (io), 60 RJ2/SEG34 (io), 61 RJ1/SEG33 (io), 62 RJ0 (io) "PORTJ is a bidirectional I/O port.Digital I/O.", 63 RD7/SEG7/~{SS2} (io), 64 RD6/SEG6/SCK2/SCL2 (io), 65 RD5/SEG5/SDI2/SDA2 (io), 66 RD4/SEG4/SDO2 (io), 67 RD3/SEG3 (io), 68 RD2/SEG2 (io), 69 RD1/SEG1/T5CKI/T7G/PSP1 (io), 72 RD0/PSP0/SEG0/CTPLS (io), 73 RE7/ECCP2/P2A/SEG31 (io), 74 RE6/COM3/P1B/CCP6 (io), 75 RE5/COM2/P1C/CCP7 (io), 76 RE4/COM1/P3B/CCP8 (io), 77 RE3/COM0/P3C/CCP9/REFO (io), 78 RE2/LCDBIAS3/P2B/CCP10 (io), 79 RH0/AN23/SEG47 (io), 80 RH1/AN22/SEG46 (io)
part B pins: 11 VSS (power) "Ground reference for logic and I/O pins.", 25 AVDD (power) "Positive supply for analog modules.", 26 AVSS (power) "Ground reference for analog modules.", 31 VSS (power) "Ground reference for logic and I/O pins.", 32 VDD (power) "Positive supply for logic and I/O pins.", 48 VDD (power) "Positive supply for logic and I/O pins.", 51 VSS (power) "Ground reference for logic and I/O pins.", 70 VSS (power) "Ground reference for logic and I/O pins.", 71 VDD (power) "Positive supply for logic and I/O pins."

## PIC18F87K90T-I/PT
designator U?
High-Performance Microcontroller with LCD Driver and nanoWatt XLP Technology, 64 MHz, 69 I/O, -40 to 85 degC, 80-pin TQFP (PT80), Tape and Reel; Manufacturer: Microchip; PartNumber: PIC18F87K90T-I/PT; # of A/D Channels: 24; Digital Communication: 2 -A/E/USART, 2 -MSSP(SPI/I2C); EEPROM Data Memory (bytes): 1024; I/O Pins: 69; Internal Oscillator: 16 MHz, 31 kHz; Max. CPU Speed MHz: 64; Memory Type: Flash; Operation Voltage Range: 1.8V - 5.5V; Packing: T/R; Program Memory KBytes: 128; RAM: 4096; Timers: 6 - 8-bit, 5 - 16-bit; DatasheetVersion: Rev. D; PackageVersion: C04-092B, 12/2012; PackageReference: TQFP-PT80; PackageDescription: 80-Lead Plastic Thin Quad FlatPack, 12 x 12 mm Body, 0.5 mm Pitch; Supplier 1: Digi-Key; Supplier Part Number 1: PIC18F87K90T-I/PT-ND; Supplier 2: Mouser; Supplier Part Number 2: 579-PIC18F87K90TI/PT; Program Memory KWords: 64; RoHS: TRUE; Mounting Technology: Surface Mount; ComponentLink1Description: Datasheet; ComponentLink1URL: http://ww1.microchip.com/downloads/en/DeviceDoc/39957d.pdf; ComponentLink2Description: Package Specification; ComponentLink2URL: http://www.microchip.com/stellent/groups/techpub_sg/documents/packagingspec/en012702.pdf; ComponentLink3Description: URL Link1; ComponentLink3URL: Product URL:http://www.microchip.com/datasheet/PIC18F87K90
footprint MCHP-TQFP-PT80_N (QFN, 80-Leads, Body 12x12mm, Pitch 0.5mm, IPC Medium Density)
footprint MCHP-TQFP-PT80_L (QFN, 80-Leads, Body 12x12mm, Pitch 0.5mm, IPC High Density)
footprint MCHP-TQFP-PT80_M (QFN, 80-Leads, Body 12x12mm, Pitch 0.5mm, IPC Low Density)
part A pins: 1 RH2/AN21/SEG45 (io), 2 RH3/AN20/SEG44 (io), 3 RE1/LCDBIAS2/P2C (io), 4 RE0/LCDBIAS1/P2D (io), 5 RG0/ECCP3/P3A (io), 6 RG1/AN19/TX2/CK2/C3OUT (io), 7 RG2/AN18/RX2/DT2/C3INA (io), 8 RG3/AN17/CCP4/P3D/C3INB (io), 9 RG5/~{MCLR} (in), 10 RG4/AN16/SEG26/RTCC/T7CKI/T5G/CCP5/P1D/C3INC (io), 12 VDDCORE/VCAP (power), 13 RF7/AN5/~{SS1}/SEG25 (io), 14 RF6/AN11/SEG24/C1INA (io), 15 RF5/AN10/CVREF/SEG23/C1INB (io), 16 RF4/AN9/SEG22/C2INA (io), 17 RF3/AN8/SEG21/C2INB/CTMUI (io), 18 RF2/AN7/C1OUT/SEG20 (io), 19 RH7/AN15/SEG43/CCP6/P1B (io), 20 RH6/AN14/SEG42/CCP7/P1C/C1INC (io), 21 RH5/AN13/SEG41/CCP8/P3B/C2IND (io), 22 RH4/AN12/SEG40/CCP9/P3C/C2INC (io), 23 RF1/AN6/C2OUT/SEG19/CTDIN (io), 24 ENVREG (in) "Enable for on-chip voltage regulator.", 27 RA3/AN3/VREF+ (io), 28 RA2/AN2/VREF- (io), 29 RA1/AN1/SEG18 (io), 30 RA0/AN0/ULPWU (io), 33 RA5/AN4/T1CKI/SEG15/T3G/HLVDIN (io), 34 RA4/T0CKI/SEG14 (io), 35 RC1/SOSCI/ECCP2/SEG32/P2A (io), 36 RC0/SOSCO/SCKLI (io), 37 RC6/TX1/CK1/SEG27 (io), 38 RC7/RX1/DT1/SEG28 (io), 39 RJ4/SEG39 (io), 40 RJ5/SEG38 (io), 41 RJ6/SEG37 (io), 42 RJ7/SEG36 (io), 43 RC2/ECCP1/P1A/SEG13 (io), 44 RC3/SCK1/SCL1/SEG17 (io), 45 RC4/SDI1/SDA1/SEG16 (io), 46 RC5/SDO1/SEG12 (io), 47 RB7/KBI3/PGD (io), 49 RA7/OSC1/CLKI (io), 50 RA6/OSC2/CLKO (io), 52 RB6/KBI2/PGC (io), 53 RB5/KBI1/SEG29/T3CKI/T1G (io), 54 RB4/KBI0/SEG11 (io), 55 RB3/INT3/SEG10/CTED2/P2A (io), 56 RB2/INT2/SEG9/CTED1 (io), 57 RB1/INT1/SEG8 (io), 58 RB0/INT0/SEG30/FLT0 (io), 59 RJ3/SEG35 (io), 60 RJ2/SEG34 (io), 61 RJ1/SEG33 (io), 62 RJ0 (io) "PORTJ is a bidirectional I/O port.Digital I/O.", 63 RD7/SEG7/~{SS2} (io), 64 RD6/SEG6/SCK2/SCL2 (io), 65 RD5/SEG5/SDI2/SDA2 (io), 66 RD4/SEG4/SDO2 (io), 67 RD3/SEG3 (io), 68 RD2/SEG2 (io), 69 RD1/SEG1/T5CKI/T7G/PSP1 (io), 72 RD0/PSP0/SEG0/CTPLS (io), 73 RE7/ECCP2/P2A/SEG31 (io), 74 RE6/COM3/P1B/CCP6 (io), 75 RE5/COM2/P1C/CCP7 (io), 76 RE4/COM1/P3B/CCP8 (io), 77 RE3/COM0/P3C/CCP9/REFO (io), 78 RE2/LCDBIAS3/P2B/CCP10 (io), 79 RH0/AN23/SEG47 (io), 80 RH1/AN22/SEG46 (io)
part B pins: 11 VSS (power) "Ground reference for logic and I/O pins.", 25 AVDD (power) "Positive supply for analog modules.", 26 AVSS (power) "Ground reference for analog modules.", 31 VSS (power) "Ground reference for logic and I/O pins.", 32 VDD (power) "Positive supply for logic and I/O pins.", 48 VDD (power) "Positive supply for logic and I/O pins.", 51 VSS (power) "Ground reference for logic and I/O pins.", 70 VSS (power) "Ground reference for logic and I/O pins.", 71 VDD (power) "Positive supply for logic and I/O pins."

## PIC18F87K90T-I/PTRSL
designator U?
High-Performance Microcontroller with LCD Driver and nanoWatt XLP Technology, 64 MHz, 69 I/O, -40 to 85 degC, 80-pin TQFP (PT80), Tape and Reel; Manufacturer: Microchip; PartNumber: PIC18F87K90T-I/PTRSL; # of A/D Channels: 24; Digital Communication: 2 -A/E/USART, 2 -MSSP(SPI/I2C); EEPROM Data Memory (bytes): 1024; I/O Pins: 69; Internal Oscillator: 16 MHz, 31 kHz; Max. CPU Speed MHz: 64; Memory Type: Flash; Operation Voltage Range: 1.8V - 5.5V; Packing: T/R; Program Memory KBytes: 128; RAM: 4096; Timers: 6 - 8-bit, 5 - 16-bit; DatasheetVersion: Rev. D; PackageVersion: C04-092B, 12/2012; PackageReference: TQFP-PT80; PackageDescription: 80-Lead Plastic Thin Quad FlatPack, 12 x 12 mm Body, 0.5 mm Pitch; Supplier 1: Digi-Key; Supplier Part Number 1: PIC18F87K90T-I/PTRSL-ND; Supplier 2: Mouser; Supplier Part Number 2: 579-PIC18F87K90TIPTR; Program Memory KWords: 64; RoHS: TRUE; Mounting Technology: Surface Mount; ComponentLink1Description: Datasheet; ComponentLink1URL: http://ww1.microchip.com/downloads/en/DeviceDoc/39957d.pdf; ComponentLink2Description: Package Specification; ComponentLink2URL: http://www.microchip.com/stellent/groups/techpub_sg/documents/packagingspec/en012702.pdf; ComponentLink3Description: URL Link1; ComponentLink3URL: Product URL:http://www.microchip.com/datasheet/PIC18F87K90
footprint MCHP-TQFP-PT80_N (QFN, 80-Leads, Body 12x12mm, Pitch 0.5mm, IPC Medium Density)
footprint MCHP-TQFP-PT80_L (QFN, 80-Leads, Body 12x12mm, Pitch 0.5mm, IPC High Density)
footprint MCHP-TQFP-PT80_M (QFN, 80-Leads, Body 12x12mm, Pitch 0.5mm, IPC Low Density)
part A pins: 1 RH2/AN21/SEG45 (io), 2 RH3/AN20/SEG44 (io), 3 RE1/LCDBIAS2/P2C (io), 4 RE0/LCDBIAS1/P2D (io), 5 RG0/ECCP3/P3A (io), 6 RG1/AN19/TX2/CK2/C3OUT (io), 7 RG2/AN18/RX2/DT2/C3INA (io), 8 RG3/AN17/CCP4/P3D/C3INB (io), 9 RG5/~{MCLR} (in), 10 RG4/AN16/SEG26/RTCC/T7CKI/T5G/CCP5/P1D/C3INC (io), 12 VDDCORE/VCAP (power), 13 RF7/AN5/~{SS1}/SEG25 (io), 14 RF6/AN11/SEG24/C1INA (io), 15 RF5/AN10/CVREF/SEG23/C1INB (io), 16 RF4/AN9/SEG22/C2INA (io), 17 RF3/AN8/SEG21/C2INB/CTMUI (io), 18 RF2/AN7/C1OUT/SEG20 (io), 19 RH7/AN15/SEG43/CCP6/P1B (io), 20 RH6/AN14/SEG42/CCP7/P1C/C1INC (io), 21 RH5/AN13/SEG41/CCP8/P3B/C2IND (io), 22 RH4/AN12/SEG40/CCP9/P3C/C2INC (io), 23 RF1/AN6/C2OUT/SEG19/CTDIN (io), 24 ENVREG (in) "Enable for on-chip voltage regulator.", 27 RA3/AN3/VREF+ (io), 28 RA2/AN2/VREF- (io), 29 RA1/AN1/SEG18 (io), 30 RA0/AN0/ULPWU (io), 33 RA5/AN4/T1CKI/SEG15/T3G/HLVDIN (io), 34 RA4/T0CKI/SEG14 (io), 35 RC1/SOSCI/ECCP2/SEG32/P2A (io), 36 RC0/SOSCO/SCKLI (io), 37 RC6/TX1/CK1/SEG27 (io), 38 RC7/RX1/DT1/SEG28 (io), 39 RJ4/SEG39 (io), 40 RJ5/SEG38 (io), 41 RJ6/SEG37 (io), 42 RJ7/SEG36 (io), 43 RC2/ECCP1/P1A/SEG13 (io), 44 RC3/SCK1/SCL1/SEG17 (io), 45 RC4/SDI1/SDA1/SEG16 (io), 46 RC5/SDO1/SEG12 (io), 47 RB7/KBI3/PGD (io), 49 RA7/OSC1/CLKI (io), 50 RA6/OSC2/CLKO (io), 52 RB6/KBI2/PGC (io), 53 RB5/KBI1/SEG29/T3CKI/T1G (io), 54 RB4/KBI0/SEG11 (io), 55 RB3/INT3/SEG10/CTED2/P2A (io), 56 RB2/INT2/SEG9/CTED1 (io), 57 RB1/INT1/SEG8 (io), 58 RB0/INT0/SEG30/FLT0 (io), 59 RJ3/SEG35 (io), 60 RJ2/SEG34 (io), 61 RJ1/SEG33 (io), 62 RJ0 (io) "PORTJ is a bidirectional I/O port.Digital I/O.", 63 RD7/SEG7/~{SS2} (io), 64 RD6/SEG6/SCK2/SCL2 (io), 65 RD5/SEG5/SDI2/SDA2 (io), 66 RD4/SEG4/SDO2 (io), 67 RD3/SEG3 (io), 68 RD2/SEG2 (io), 69 RD1/SEG1/T5CKI/T7G/PSP1 (io), 72 RD0/PSP0/SEG0/CTPLS (io), 73 RE7/ECCP2/P2A/SEG31 (io), 74 RE6/COM3/P1B/CCP6 (io), 75 RE5/COM2/P1C/CCP7 (io), 76 RE4/COM1/P3B/CCP8 (io), 77 RE3/COM0/P3C/CCP9/REFO (io), 78 RE2/LCDBIAS3/P2B/CCP10 (io), 79 RH0/AN23/SEG47 (io), 80 RH1/AN22/SEG46 (io)
part B pins: 11 VSS (power) "Ground reference for logic and I/O pins.", 25 AVDD (power) "Positive supply for analog modules.", 26 AVSS (power) "Ground reference for analog modules.", 31 VSS (power) "Ground reference for logic and I/O pins.", 32 VDD (power) "Positive supply for logic and I/O pins.", 48 VDD (power) "Positive supply for logic and I/O pins.", 51 VSS (power) "Ground reference for logic and I/O pins.", 70 VSS (power) "Ground reference for logic and I/O pins.", 71 VDD (power) "Positive supply for logic and I/O pins."

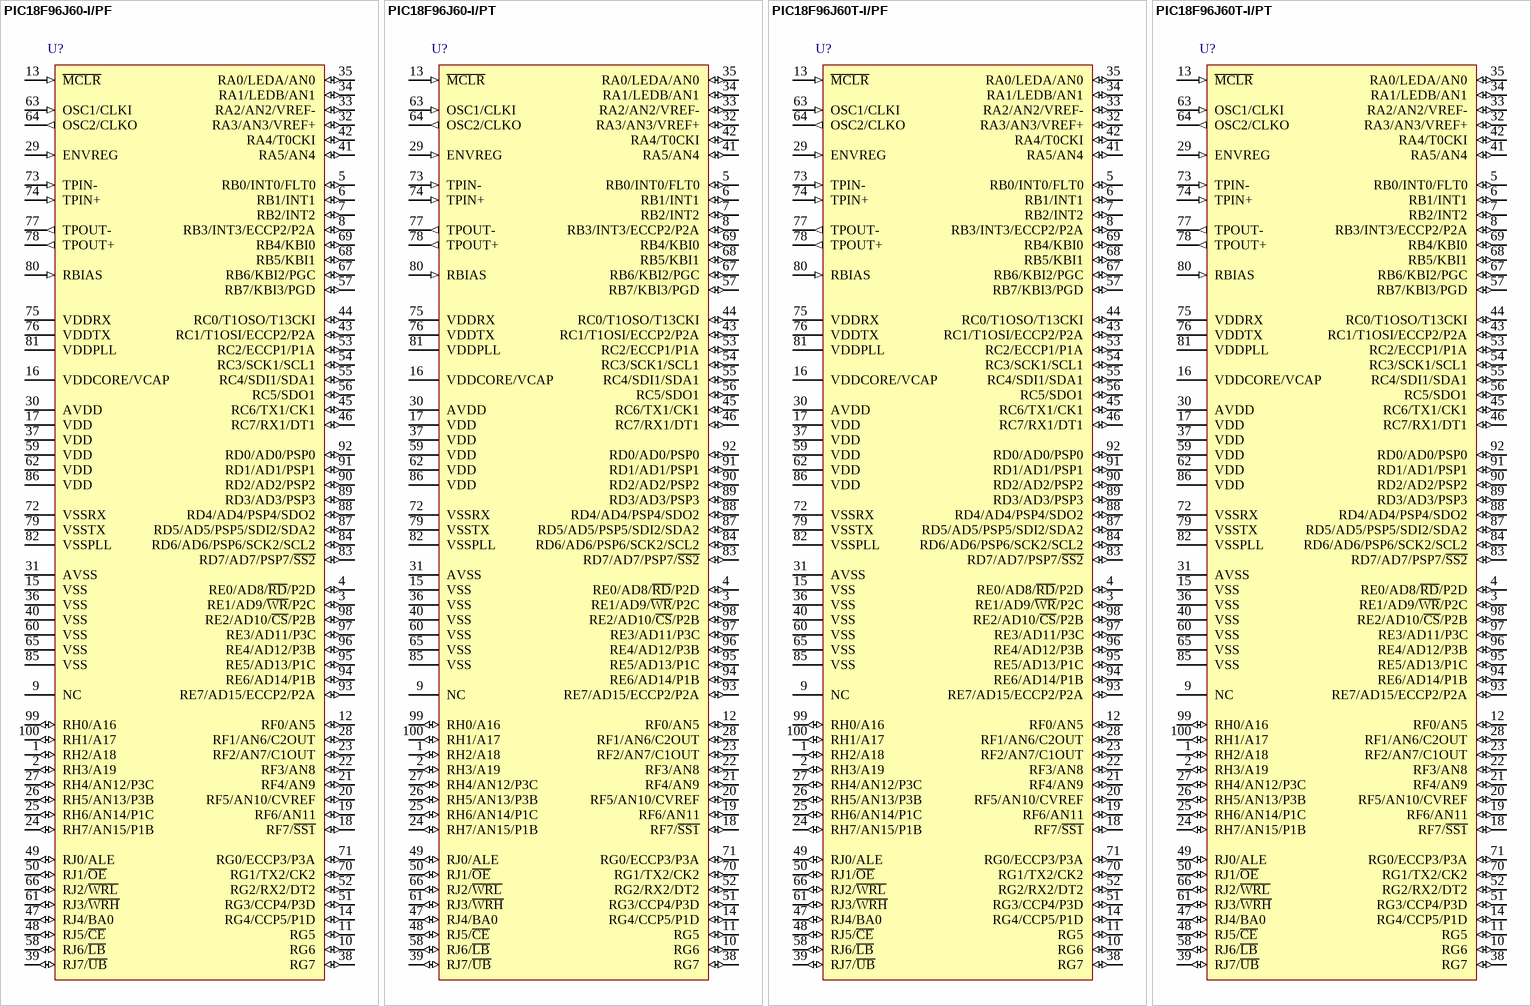
[diagram p84: symbols PIC18F96J60-I/PF to PIC18F96J60T-I/PT]

## PIC18F96J60-I/PF
designator U?
High Performance, 1-Mbit Flash Microcontroller with Ethernet, 64K Flash, 100-Pin TQFP, Industrial Temperature Range; Manufacturer: Microchip; PartNumber: PIC18F96J60-I/PF; DatasheetVersion: revE, Oct-2009; PackageVersion: revBB, Aug-2009; PackageReference: TQFP-PF100; PackageDescription: 100-Lead Thin Plastic Quad Flat Pack (PF) - 14x14x1mm Body, 2.00mm [TQFP]; ComponentLink1Description: Manufacturer URL; ComponentLink1URL: http://www.microchip.com/; ComponentLink2Description: Datasheet; ComponentLink2URL: http://ww1.microchip.com/downloads/en/DeviceDoc/39762e.pdf; ComponentLink3Description: Package Specification; ComponentLink3URL: http://www.microchip.com/stellent/groups/techpub_sg/documents/packagingspec/en012702.pdf
footprint TQFP-PF100_N (Thin QFP, 100-Leads, Body 14x14mm, Pitch 0.5mm, IPC Medium Density)
footprint TQFP-PF100_L (Thin QFP, 100-Leads, Body 14x14mm, Pitch 0.5mm, IPC High Density)
footprint TQFP-PF100_M (Thin QFP, 100-Leads, Body 14x14mm, Pitch 0.5mm, IPC Low Density)
pins: 1 RH2/A18 (io), 2 RH3/A19 (io), 3 RE1/AD9/~{WR}/P2C (io), 4 RE0/AD8/~{RD}/P2D (io), 5 RB0/INT0/FLT0 (io), 6 RB1/INT1 (io), 7 RB2/INT2 (io), 8 RB3/INT3/ECCP2/P2A (io), 9 NC, 10 RG6 (io), 11 RG5 (io), 12 RF0/AN5 (io), 13 ~{MCLR} (in), 14 RG4/CCP5/P1D (io), 15 VSS (power), 16 VDDCORE/VCAP (power), 17 VDD (power), 18 RF7/~{SS1} (io), 19 RF6/AN11 (io), 20 RF5/AN10/CVREF (io), 21 RF4/AN9 (io), 22 RF3/AN8 (io), 23 RF2/AN7/C1OUT (io), 24 RH7/AN15/P1B (io), 25 RH6/AN14/P1C (io), 26 RH5/AN13/P3B (io), 27 RH4/AN12/P3C (io), 28 RF1/AN6/C2OUT (io), 29 ENVREG (in), 30 AVDD (power), 31 AVSS (power), 32 RA3/AN3/VREF+ (io), 33 RA2/AN2/VREF- (io), 34 RA1/LEDB/AN1 (io), 35 RA0/LEDA/AN0 (io), 36 VSS (power), 37 VDD (power), 38 RG7 (io), 39 RJ7/~{UB} (io), 40 VSS (power), 41 RA5/AN4 (io), 42 RA4/T0CKI (io), 43 RC1/T1OSI/ECCP2/P2A (io), 44 RC0/T1OSO/T13CKI (io), 45 RC6/TX1/CK1 (io), 46 RC7/RX1/DT1 (io), 47 RJ4/BA0 (io), 48 RJ5/~{CE} (io), 49 RJ0/ALE (io), 50 RJ1/~{OE} (io), 51 RG3/CCP4/P3D (io), 52 RG2/RX2/DT2 (io), 53 RC2/ECCP1/P1A (io), 54 RC3/SCK1/SCL1 (io), 55 RC4/SDI1/SDA1 (io), 56 RC5/SDO1 (io), 57 RB7/KBI3/PGD (io), 58 RJ6/~{LB} (io), 59 VDD (power), 60 VSS (power), 61 RJ3/~{WRH} (io), 62 VDD (power), 63 OSC1/CLKI (in), 64 OSC2/CLKO (out), 65 VSS (power), 66 RJ2/~{WRL} (io), 67 RB6/KBI2/PGC (io), 68 RB5/KBI1 (io), 69 RB4/KBI0 (io), 70 RG1/TX2/CK2 (io), 71 RG0/ECCP3/P3A (io), 72 VSSRX (power), 73 TPIN- (in), 74 TPIN+ (in), 75 VDDRX (power), 76 VDDTX (power), 77 TPOUT- (out), 78 TPOUT+ (out), 79 VSSTX (power), 80 RBIAS (in), 81 VDDPLL (power), 82 VSSPLL (power), 83 RD7/AD7/PSP7/~{SS2} (io), 84 RD6/AD6/PSP6/SCK2/SCL2 (io), 85 VSS (power), 86 VDD (power), 87 RD5/AD5/PSP5/SDI2/SDA2 (io), 88 RD4/AD4/PSP4/SDO2 (io), 89 RD3/AD3/PSP3 (io), 90 RD2/AD2/PSP2 (io), 91 RD1/AD1/PSP1 (io), 92 RD0/AD0/PSP0 (io), 93 RE7/AD15/ECCP2/P2A (io), 94 RE6/AD14/P1B (io), 95 RE5/AD13/P1C (io), 96 RE4/AD12/P3B (io), 97 RE3/AD11/P3C (io), 98 RE2/AD10/~{CS}/P2B (io), 99 RH0/A16 (io), 100 RH1/A17 (io)

## PIC18F96J60-I/PT
designator U?
High Performance, 1-Mbit Flash Microcontroller with Ethernet, 64K Flash, 100-Pin TQFP, Industrial Temperature Range; Manufacturer: Microchip; PartNumber: PIC18F96J60-I/PT; DatasheetVersion: revE, Oct-2009; PackageVersion: C04-100B, 12/2012; PackageReference: TQFP-PT100; PackageDescription: 100-Lead Plastic Thin Quad Flatpack, 12 x 12 mm Body, 0.4 mm Pitch; ComponentLink1Description: Manufacturer URL; ComponentLink1URL: http://www.microchip.com/; ComponentLink2Description: Datasheet; ComponentLink2URL: http://ww1.microchip.com/downloads/en/DeviceDoc/39762e.pdf; ComponentLink3Description: Package Specification; ComponentLink3URL: http://www.microchip.com/stellent/groups/techpub_sg/documents/packagingspec/en012702.pdf
footprint MCHP-TQFP-PT100_N (QFP, 100-Leads, Body 12x12mm, Pitch 0.4mm, IPC Medium Density)
footprint MCHP-TQFP-PT100_L (QFP, 100-Leads, Body 12x12mm, Pitch 0.4mm, IPC High Density)
footprint MCHP-TQFP-PT100_M (TQFP, 100-Leads, Body 12x12mm, Pitch 0.4mm, IPC Low Density)
pins: 1 RH2/A18 (io), 2 RH3/A19 (io), 3 RE1/AD9/~{WR}/P2C (io), 4 RE0/AD8/~{RD}/P2D (io), 5 RB0/INT0/FLT0 (io), 6 RB1/INT1 (io), 7 RB2/INT2 (io), 8 RB3/INT3/ECCP2/P2A (io), 9 NC, 10 RG6 (io), 11 RG5 (io), 12 RF0/AN5 (io), 13 ~{MCLR} (in), 14 RG4/CCP5/P1D (io), 15 VSS (power), 16 VDDCORE/VCAP (power), 17 VDD (power), 18 RF7/~{SS1} (io), 19 RF6/AN11 (io), 20 RF5/AN10/CVREF (io), 21 RF4/AN9 (io), 22 RF3/AN8 (io), 23 RF2/AN7/C1OUT (io), 24 RH7/AN15/P1B (io), 25 RH6/AN14/P1C (io), 26 RH5/AN13/P3B (io), 27 RH4/AN12/P3C (io), 28 RF1/AN6/C2OUT (io), 29 ENVREG (in), 30 AVDD (power), 31 AVSS (power), 32 RA3/AN3/VREF+ (io), 33 RA2/AN2/VREF- (io), 34 RA1/LEDB/AN1 (io), 35 RA0/LEDA/AN0 (io), 36 VSS (power), 37 VDD (power), 38 RG7 (io), 39 RJ7/~{UB} (io), 40 VSS (power), 41 RA5/AN4 (io), 42 RA4/T0CKI (io), 43 RC1/T1OSI/ECCP2/P2A (io), 44 RC0/T1OSO/T13CKI (io), 45 RC6/TX1/CK1 (io), 46 RC7/RX1/DT1 (io), 47 RJ4/BA0 (io), 48 RJ5/~{CE} (io), 49 RJ0/ALE (io), 50 RJ1/~{OE} (io), 51 RG3/CCP4/P3D (io), 52 RG2/RX2/DT2 (io), 53 RC2/ECCP1/P1A (io), 54 RC3/SCK1/SCL1 (io), 55 RC4/SDI1/SDA1 (io), 56 RC5/SDO1 (io), 57 RB7/KBI3/PGD (io), 58 RJ6/~{LB} (io), 59 VDD (power), 60 VSS (power), 61 RJ3/~{WRH} (io), 62 VDD (power), 63 OSC1/CLKI (in), 64 OSC2/CLKO (out), 65 VSS (power), 66 RJ2/~{WRL} (io), 67 RB6/KBI2/PGC (io), 68 RB5/KBI1 (io), 69 RB4/KBI0 (io), 70 RG1/TX2/CK2 (io), 71 RG0/ECCP3/P3A (io), 72 VSSRX (power), 73 TPIN- (in), 74 TPIN+ (in), 75 VDDRX (power), 76 VDDTX (power), 77 TPOUT- (out), 78 TPOUT+ (out), 79 VSSTX (power), 80 RBIAS (in), 81 VDDPLL (power), 82 VSSPLL (power), 83 RD7/AD7/PSP7/~{SS2} (io), 84 RD6/AD6/PSP6/SCK2/SCL2 (io), 85 VSS (power), 86 VDD (power), 87 RD5/AD5/PSP5/SDI2/SDA2 (io), 88 RD4/AD4/PSP4/SDO2 (io), 89 RD3/AD3/PSP3 (io), 90 RD2/AD2/PSP2 (io), 91 RD1/AD1/PSP1 (io), 92 RD0/AD0/PSP0 (io), 93 RE7/AD15/ECCP2/P2A (io), 94 RE6/AD14/P1B (io), 95 RE5/AD13/P1C (io), 96 RE4/AD12/P3B (io), 97 RE3/AD11/P3C (io), 98 RE2/AD10/~{CS}/P2B (io), 99 RH0/A16 (io), 100 RH1/A17 (io)